# Altium integrated library 39543-0602.IntLib: 1 symbol
Pins are listed as number, name and electrical type; pins without a type are passive.

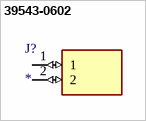
[diagram p0: symbol 39543-0602]

## 39543-0602
designator J?
2 Position Wire to Board Terminal Block Horizontal with Board 0.197 (5.00mm) Through Hole; MF: Molex; MP: 395430602; SnapEDA_Link: https://www.snapeda.com/parts/395430602/Molex/view-part/?ref=snap; Package: None; Value: *; Check_prices: https://www.snapeda.com/parts/395430602/Molex/view-part/?ref=eda
footprint SHDR2W100P0X500_1X2_1000X760X1
pins: 1 (io), 2 (io)